# Altium schematic symbol library rect_0.Schlib: 1 symbol
Pins are listed as number, name and electrical type; pins without a type are passive.

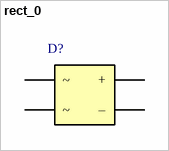
[diagram p0: symbol rect_0]

## rect_0
designator D?  (value not drawn)
Full Bridge Rectifier
pins: 1 +, 2 ~, 3 ~, 4 –